# Altium footprint library WSN.PcbLib: 18 footprints (part 1 of 2)
Each footprint in its own frame and in the unit in brackets; x right, y up, seen from the top. Pads: shape width x height; smd on the part's side, far side on the other; paste and mask are expansions set on the pad; w line width, h text height; cw(c..) or ccw(c..) is an arc to the next point about the centre after c.
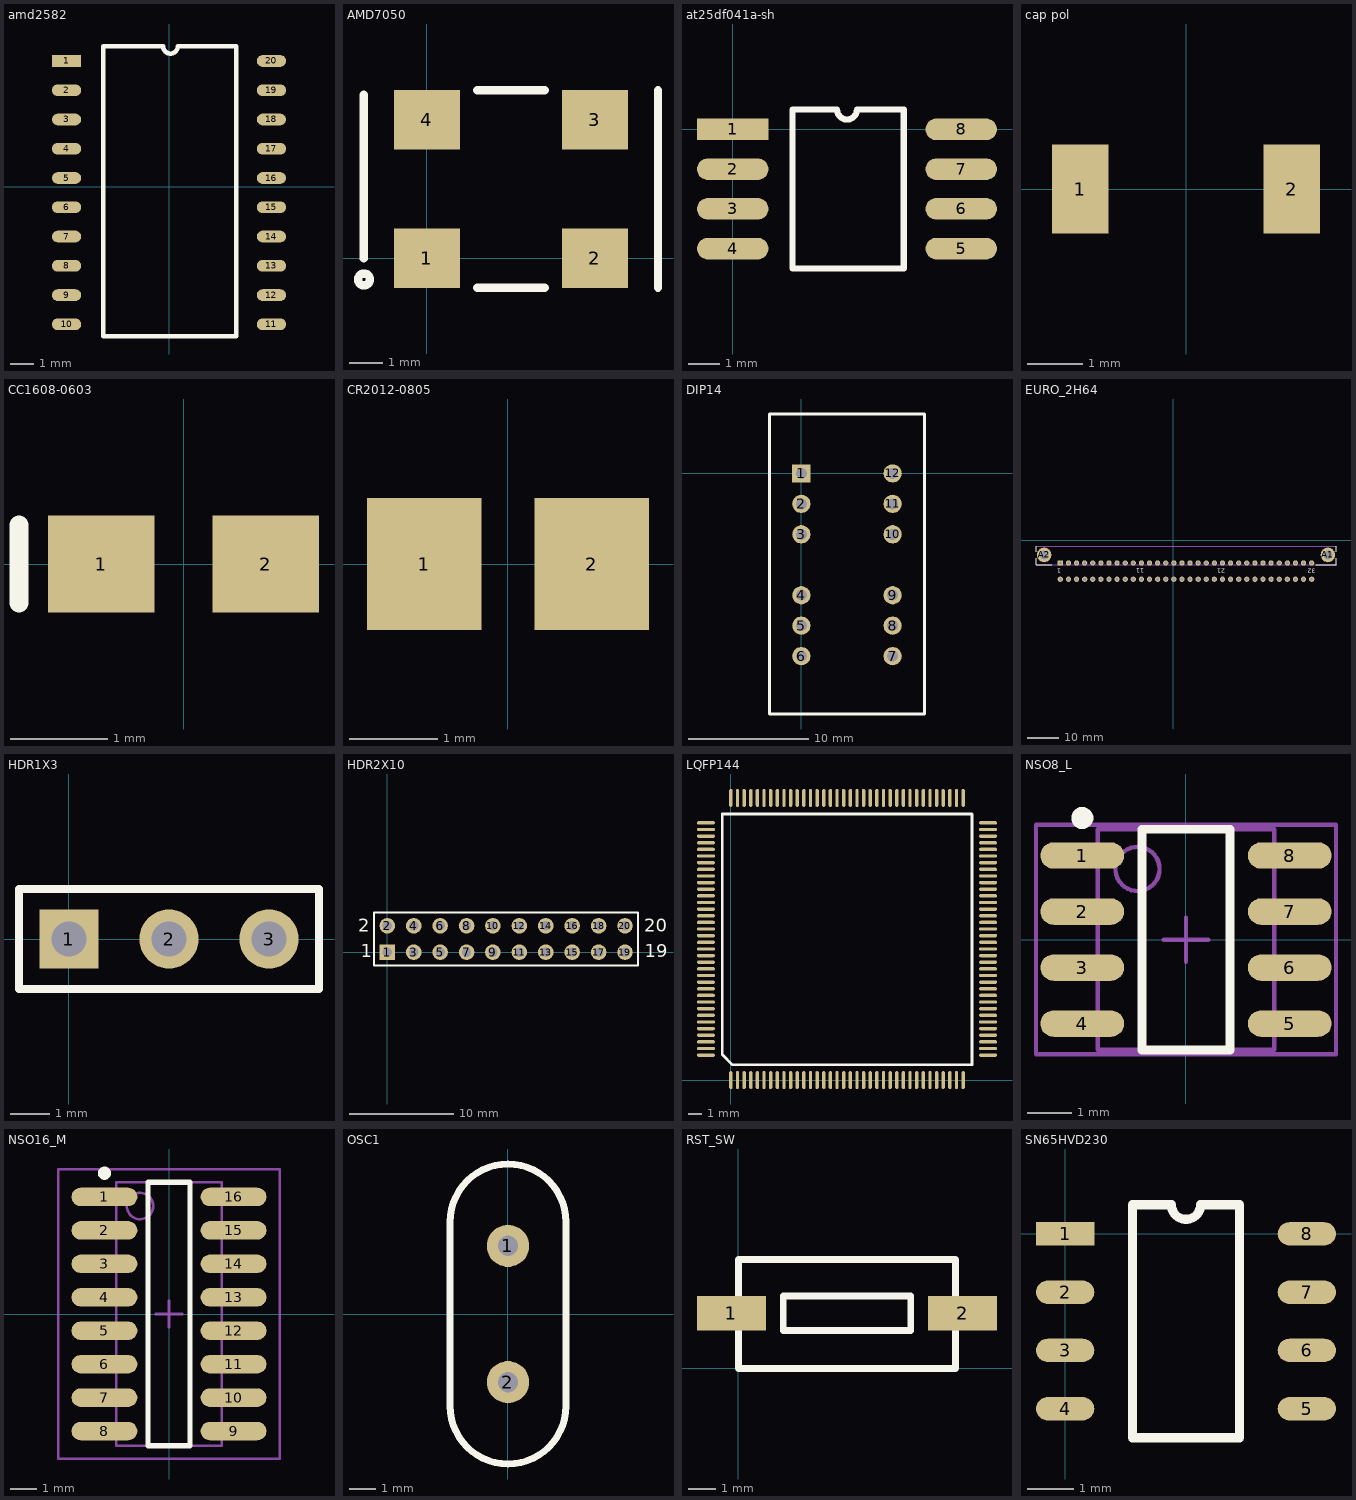
[diagram p0: the footprints below, top view; thin cyan lines are the x and y axes]

## amd2582 [mm]
pads (20):
  rect 1.27x0.51 smd: 1(-4.445,5.461)
  oval 1.27x0.51 smd: 2(-4.445,4.191) 3(-4.445,2.921) 4(-4.445,1.651) 5(-4.445,0.381) 6(-4.445,-0.889) 7(-4.445,-2.159) 8(-4.445,-3.429) 9(-4.445,-4.699) 10(-4.445,-5.969) 11(4.445,-5.969) 12(4.445,-4.699) 13(4.445,-3.429) 14(4.445,-2.159) 15(4.445,-0.889) 16(4.445,0.381) 17(4.445,1.651) 18(4.445,2.921) 19(4.445,4.191) 20(4.445,5.461)
Top Overlay:
  lines w0.2: -2.848,-6.477 -2.848,6.096 -0.254,6.096 ccw(c0.064,6.096) 0.381,6.096 2.921,6.096 2.921,-6.477 -2.848,-6.477

## AMD7050 [mm]
pads (4):
  rect 2x1.8 smd: 1(0,0) 2(5.08,0) 3(5.08,4.2) 4(0,4.2)
Top Overlay:
  circle w0.254: c-1.905,-0.635 r0.18
  lines w0.254: -1.905,0 -1.905,4.953 ; 1.524,-0.889 3.556,-0.889 ; 1.524,5.08 3.556,5.08 ; 6.985,-0.889 6.985,5.08

## at25df041a-sh [mil]
pads (8):
  rect 90x27 smd: 1(0,0)
  oval 90x27 smd: 2(0,-50) 3(0,-100) 4(0,-150) 5(287.4,-150) 6(287.4,-100) 7(287.4,-50) 8(287.4,0)
Top Overlay:
  lines w7.87: 75,-175 215,-175 215,25 156.2,25 cw(c143.7,25) 131.2,25 75,25 75,-175

## cap pol [mil]
pads (2):
  rect 40x63 smd: 1(-75,0) 2(75,0)

## CC1608-0603 [mm] "Chip Capacitor; Body 1.6 x 0.8 mm (LxW typ)"
height 1.35
pads (2):
  rect 1.1x1 smd: 1(-0.85,0) 2(0.85,0)
Top Overlay:
  lines w0.2: -1.7,-0.4 -1.7,0.4

## CR2012-0805 [mm] "Chip Resistor; Body 2.0 x 1.3 mm (LxW typ)"
pads (2):
  rect 1.3x1.5 smd: 1(-0.95,0) 2(0.95,0)

## DIP14 [mil]
pads (12):
  rect 60x60 hole 36: 1(0,0)
  round 60 hole 36: 2(0,-100) 3(0,-200) 4(0,-400) 5(0,-500) 6(0,-600) 7(300,-600) 8(300,-500) 9(300,-400) 10(300,-200) 11(300,-100) 12(300,0)
Top Overlay:
  lines w10: -105,-790 -105,195 130,195 405,195 405,-790 -105,-790

## EURO_2H64 [mm]
height 15.51
pads (66):
  rect 1.65x1.65 hole 1: 1(-35.306,-7.078)
  round 1.65 hole 1: 2(-32.766,-7.078) 3(-30.226,-7.078) 4(-27.686,-7.078) 5(-25.146,-7.078) 6(-22.606,-7.078) 7(-20.066,-7.078) 8(-17.526,-7.078) 9(-14.986,-7.078) 10(-12.446,-7.078) 11(-9.906,-7.078) 12(-7.366,-7.078) 13(-4.826,-7.078) 14(-2.286,-7.078) 15(0.254,-7.078) 16(2.794,-7.078) 17(5.334,-7.078) 18(7.874,-7.078) 19(10.414,-7.078) 20(12.954,-7.078) 21(15.494,-7.078) 22(18.034,-7.078) 23(20.574,-7.078) 24(23.114,-7.078) 25(25.654,-7.078) 26(28.194,-7.078) 27(30.734,-7.078) 28(33.274,-7.078) 29(35.814,-7.078) 30(38.354,-7.078) 31(40.894,-7.078) 32(43.434,-7.078) 33(43.434,-12.158) 34(40.894,-12.158) 35(38.354,-12.158) 36(35.814,-12.158) 37(33.274,-12.158) 38(30.734,-12.158) 39(28.194,-12.158) 40(25.654,-12.158) 41(23.114,-12.158) 42(20.574,-12.158) 43(18.034,-12.158) 44(15.494,-12.158) 45(12.954,-12.158) 46(10.414,-12.158) 47(7.874,-12.158) 48(5.334,-12.158) 49(2.794,-12.158) 50(0.254,-12.158) 51(-2.286,-12.158) 52(-4.826,-12.158) 53(-7.366,-12.158) 54(-9.906,-12.158) 55(-12.446,-12.158) 56(-14.986,-12.158) 57(-17.526,-12.158) 58(-20.066,-12.158) 59(-22.606,-12.158) 60(-25.146,-12.158) 61(-27.686,-12.158) 62(-30.226,-12.158) 63(-32.766,-12.158) 64(-35.306,-12.158)
  round 4.6 hole 2.8: A1(48.514,-4.538) A2(-40.386,-4.538)
Top Overlay:
  lines w0.2: -42.936,-5.538 -42.936,-7.578 -38.006,-7.578 ; -42.936,-3.538 -42.936,-1.779 ; 44.659,-7.578 51.064,-7.578 51.064,-5.538 ; 51.064,-3.538 51.064,-1.779
  text "21" at 16.383,-8.891 h1.5
  text "11" at -9.017,-8.764 h1.5
  text "32" at 44.704,-8.891 h1.5
  text "1" at -35.052,-8.891 h1.5
Mechanical 1:
  lines w0.1: -42.936,-1.778 51.064,-1.778
  text "PCB Edge" at -34.29,-2.16 h0.6
Mechanical 13:
  lines w0.1: -42.936,-7.578 51.064,-7.578

## HDR1X3 [mm] "Connector; Header; 3 Position"
pads (3):
  rect 1.5x1.5 hole 0.9: 1(0,0)
  round 1.5 hole 0.9: 2(2.54,0) 3(5.08,0)
Top Overlay:
  lines w0.2: -1.27,-1.27 6.35,-1.27 6.35,1.27 -1.27,1.27 -1.27,-1.27

## HDR2X10 [mm] "Connector; Header; 10x2 Position"
pads (20):
  rect 1.5x1.5 hole 0.9: 1(0,0)
  round 1.5 hole 0.9: 2(0,2.54) 3(2.54,0) 4(2.54,2.54) 5(5.08,0) 6(5.08,2.54) 7(7.62,0) 8(7.62,2.54) 9(10.16,0) 10(10.16,2.54) 11(12.7,0) 12(12.7,2.54) 13(15.24,0) 14(15.24,2.54) 15(17.78,0) 16(17.78,2.54) 17(20.32,0) 18(20.32,2.54) 19(22.86,0) 20(22.86,2.54)
Top Overlay:
  lines w0.2: -1.27,-1.27 0.635,-1.27 24.13,-1.27 24.13,3.81 0.635,3.81 -1.27,3.81 -1.27,-1.27
  text "20" at 24.689,1.956 h1.27
  text "19" at 24.765,-0.508 h1.27
  text "1" at -2.54,-0.508 h1.27
  text "2" at -2.819,1.956 h1.27

## LQFP144 [mm]
pads (144):
  oval 0.254x1.35 smd: 1(0,0) 2(0.5,0) 3(1,0) 4(1.5,0) 5(2,0) 6(2.5,0) 7(3,0) 8(3.5,0) 9(4,0) 10(4.5,0) 11(5,0) 12(5.5,0) 13(6,0) 14(6.5,0) 15(7,0) 16(7.5,0) 17(8,0) 18(8.5,0) 19(9,0) 20(9.5,0) 21(10,0) 22(10.5,0) 23(11,0) 24(11.5,0) 25(12,0) 26(12.5,0) 27(13,0) 28(13.5,0) 29(14,0) 30(14.5,0) 31(15,0) 32(15.5,0) 33(16,0) 34(16.5,0) 35(17,0) 36(17.5,0) 73(17.5,21.25) 74(17,21.25) 75(16.5,21.25) 76(16,21.25) 77(15.5,21.25) 78(15,21.25) 79(14.5,21.25) 80(14,21.25) 81(13.5,21.25) 82(13,21.25) 83(12.5,21.25) 84(12,21.25) 85(11.5,21.25) 86(11,21.25) 87(10.5,21.25) 88(10,21.25) 89(9.5,21.25) 90(9,21.25) 91(8.5,21.25) 92(8,21.25) 93(7.5,21.25) 94(7,21.25) 95(6.5,21.25) 96(6,21.25) 97(5.5,21.25) 98(5,21.25) 99(4.5,21.25) 100(4,21.25) 101(3.5,21.25) 102(3,21.25) 103(2.5,21.25) 104(2,21.25) 105(1.5,21.25) 106(1,21.25) 107(0.5,21.25) 108(0,21.25)
  oval 1.35x0.254 smd: 37(19.375,1.875) 38(19.375,2.375) 39(19.375,2.875) 40(19.375,3.375) 41(19.375,3.875) 42(19.375,4.375) 43(19.375,4.875) 44(19.375,5.375) 45(19.375,5.875) 46(19.375,6.375) 47(19.375,6.875) 48(19.375,7.375) 49(19.375,7.875) 50(19.375,8.375) 51(19.375,8.875) 52(19.375,9.375) 53(19.375,9.875) 54(19.375,10.375) 55(19.375,10.875) 56(19.375,11.375) 57(19.375,11.875) 58(19.375,12.375) 59(19.375,12.875) 60(19.375,13.375) 61(19.375,13.875) 62(19.375,14.375) 63(19.375,14.875) 64(19.375,15.375) 65(19.375,15.875) 66(19.375,16.375) 67(19.375,16.875) 68(19.375,17.375) 69(19.375,17.875) 70(19.375,18.375) 71(19.375,18.875) 72(19.375,19.375) 109(-1.875,19.375) 110(-1.875,18.875) 111(-1.875,18.375) 112(-1.875,17.875) 113(-1.875,17.375) 114(-1.875,16.875) 115(-1.875,16.375) 116(-1.875,15.875) 117(-1.875,15.375) 118(-1.875,14.875) 119(-1.875,14.375) 120(-1.875,13.875) 121(-1.875,13.375) 122(-1.875,12.875) 123(-1.875,12.375) 124(-1.875,11.875) 125(-1.875,11.375) 126(-1.875,10.875) 127(-1.875,10.375) 128(-1.875,9.875) 129(-1.875,9.375) 130(-1.875,8.875) 131(-1.875,8.375) 132(-1.875,7.875) 133(-1.875,7.375) 134(-1.875,6.875) 135(-1.875,6.375) 136(-1.875,5.875) 137(-1.875,5.375) 138(-1.875,4.875) 139(-1.875,4.375) 140(-1.875,3.875) 141(-1.875,3.375) 142(-1.875,2.875) 143(-1.875,2.375) 144(-1.875,1.875)
Top Overlay:
  lines w0.2: -0.635,1.905 -0.635,20.04 18.165,20.04 18.165,1.143 0.127,1.143 -0.635,1.905

## NSO8_L [mm] "SOIC, 8-Leads, Body 4.9x3.9mm, Pitch 1.27mm, IPC High Density"
height 1.75
pads (8):
  oval 1.9x0.6 smd: 1(-2.35,1.905) 2(-2.35,0.635) 3(-2.35,-0.635) 4(-2.35,-1.905) 5(2.35,-1.905) 6(2.35,-0.635) 7(2.35,0.635) 8(2.35,1.905)
Top Overlay:
  circle w0.25: c-2.35,2.755 r0.125
  lines w0.2: -1,-2.5 -1,2.5 1,2.5 1,-2.5 -1,-2.5
Mechanical 13:
  circle w0.1: c-1.1,1.6 r0.5
  lines w0.1: -2,-2.5 -2,2.5 2,2.5 2,-2.5 -2,-2.5
Mechanical 15:
  lines w0.1: -0.5,0 0.5,0 ; 0,-0.5 0,0.5 ; -3.4,-2.6 -3.4,2.6 3.4,2.6 3.4,-2.6 -3.4,-2.6
3D body: height 1.75, standoff 0, extent -2,-2.5 2,2.5

## NSO16_M [mm] "SOIC, 16-Leads, Body 9.9x3.9mm, Pitch 1.27mm, IPC Low Density"
height 1.75
pads (16):
  oval 2.5x0.7 smd: 1(-2.45,4.445) 2(-2.45,3.175) 3(-2.45,1.905) 4(-2.45,0.635) 5(-2.45,-0.635) 6(-2.45,-1.905) 7(-2.45,-3.175) 8(-2.45,-4.445) 9(2.45,-4.445) 10(2.45,-3.175) 11(2.45,-1.905) 12(2.45,-0.635) 13(2.45,0.635) 14(2.45,1.905) 15(2.45,3.175) 16(2.45,4.445)
Top Overlay:
  circle w0.25: c-2.45,5.345 r0.125
  lines w0.2: -0.8,-5 0.8,-5 0.8,5 -0.8,5 -0.8,-5
Mechanical 13:
  circle w0.1: c-1.1,4.1 r0.5
  lines w0.1: -2,-5 2,-5 2,5 -2,5 -2,-5
Mechanical 15:
  lines w0.1: -0.5,0 0.5,0 ; 0,-0.5 0,0.5 ; -4.2,-5.5 4.2,-5.5 4.2,5.5 -4.2,5.5 -4.2,-5.5
3D body: height 1.75, standoff 0, extent -2,-5 2,5

## OSC1 [mil]
height 82.68
pads (2):
  round 62 hole 30: 1(0,100) 2(0,-100)
Top Overlay:
  lines w10: -85,-135 ccw(c0,-135) 0,-220 ccw(c0,-135) 85,-135 85,135 ccw(c0,135) 0,220 ccw(c0,135) -85,135 -85,-135

## RST_SW [mil]
pads (2):
  rect 100x50 smd: 1(-10,80) 2(325,80)
Top Overlay:
  lines w10: 0,0 0,157.48 314.96,157.48 314.96,0 0,0 ; 65,55 250,55 250,105 65,105 65,55

## SN65HVD230 [mm]
pads (8):
  rect 1.27x0.51 smd: 1(0,0)
  oval 1.27x0.51 smd: 2(0,-1.27) 3(0,-2.54) 4(0,-3.81) 5(5.27,-3.81) 6(5.27,-2.54) 7(5.27,-1.27) 8(5.27,0)
Top Overlay:
  lines w0.2: 1.47,-4.445 3.8,-4.445 3.8,0.635 2.952,0.635 cw(c2.635,0.635) 2.317,0.635 1.47,0.635 1.47,-4.445